# Altium schematic symbol library Componentes_base.SchLib: 431 symbols (part 3 of 12)
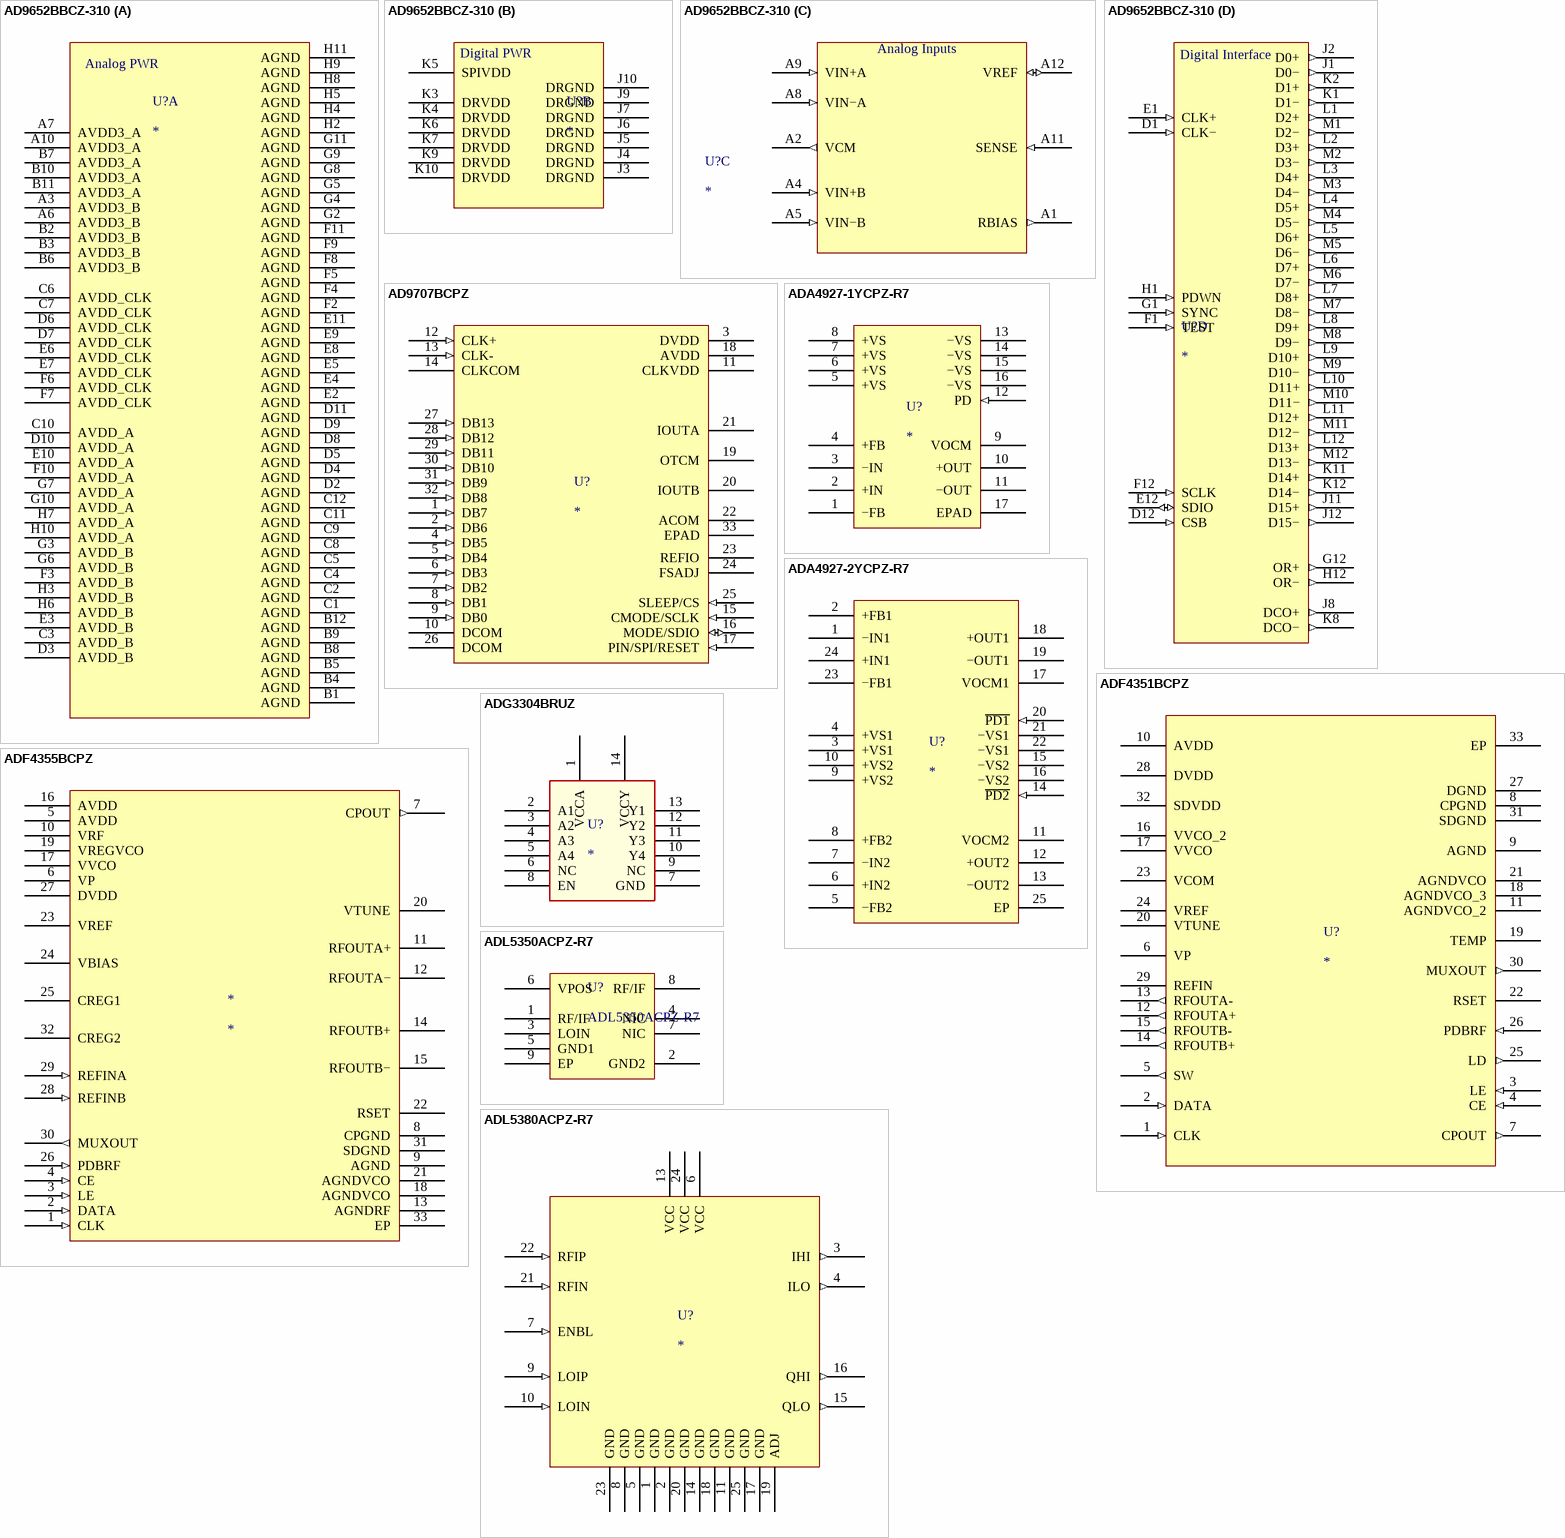
[diagram p16: symbols AD9652BBCZ-310 to ADL5380ACPZ-R7]

## ADL5380ACPZ-R7
designator U?
IC DEMOD QUAD .4/6GHZ 24LFCSP; Manufacturer: Analog Devices; Manufacturer Part Number: ADL5380ACPZ-R7; Supply Current: 245 mA; Interface Type: LO; Development Kit: AD-FMCOMMS1-EBZ; Maximum Frequency: 6 GHz; Maximum Power Dissipation: 1370 mW; Minimum Frequency: 400 MHz; Modulation Type: Quadrature; Operating Supply Voltage: 4.75 V to 5.25 V; Product Status: New at Mouser; Function: Demodulator; LO Frequency: 400MHz ~ 6GHz; P1dB: 11.6dBm; Gain: 6.9dB; Noise Figure: 10.9dB; Current - Supply: 245mA; Voltage - Supply: 4.75 V ~ 5.25 V; Supplier 1: Mouser; Supplier Part Number 1: 584-ADL5380ACPZ-R7; RoHS: RoHS Compliant; Category: Modulator/Demodulator; Stock 1: 851; Pricing 1: 1=9.05, 5=8.47, 10=8.22, 25=7.60, 50=7.20, 100=6.99, 250=6.38, 500=5.96, 1000=5.49, 1500=5.49 (EUR); Package/Case: LFCSP-24; Packaging: Reel; Series: ADL5380; Type: Demodulator; Brand: Analog Devices; Mounting Style: SMD/SMT; Maximum Operating Temperature: + 85 C; Minimum Operating Temperature: - 40 C; Standard Pack Qty: 1500; RoHS - Mouser: Y; Minimum Order Quantity: 1; Reeling: True; ComponentLink1URL: http://www.mouser.com/ds/2/609/ADL5380-243163.pdf; ComponentLink1Description: http://www.mouser.com/ds/2/609/ADL5380-243163.pdf; Supplier 2: Digi-Key; Supplier Part Number 2: ADL5380ACPZ-R7CT-ND; Stock 2: 1290; Pricing 2: 1=10.02, 10=9.092, 25=8.4296, 100=7.7237, 250=7.06164, 500=6.57616 (EUR); RF Frequency: 400MHz ~ 6GHz; Package / Case: 24-VFQFN Exposed Pad, CSP; Supplier Device Package: 24-LFCSP-VQ (4x4); ComponentLink2URL: http://www.analog.com/static/imported-files/data_sheets/ADL5380.pdf; ComponentLink2Description: http://www.analog.com/static/imported-files/data_sheets/ADL5380.pdf
footprint QFN50P400X400X100_HS-25N (QFN, 24-Leads, Body 4,00x4,00mm, Pitch 0,50mm, Thermal Pad 2,50x2,50mm, IPC Medium Density)
pins: 1 GND (power), 2 GND (power), 3 IHI (out), 4 ILO (out), 5 GND (power), 6 VCC (power), 7 ENBL (in), 8 GND (power), 9 LOIP (in), 10 LOIN (in), 11 GND (power), 12 NC hidden, 13 VCC (power), 14 GND (power), 15 QLO (out), 16 QHI (out), 17 GND (power), 18 GND (power), 19 ADJ, 20 GND (power), 21 RFIN (in), 22 RFIP (in), 23 GND (power), 24 VCC (power), 25 GND (power)

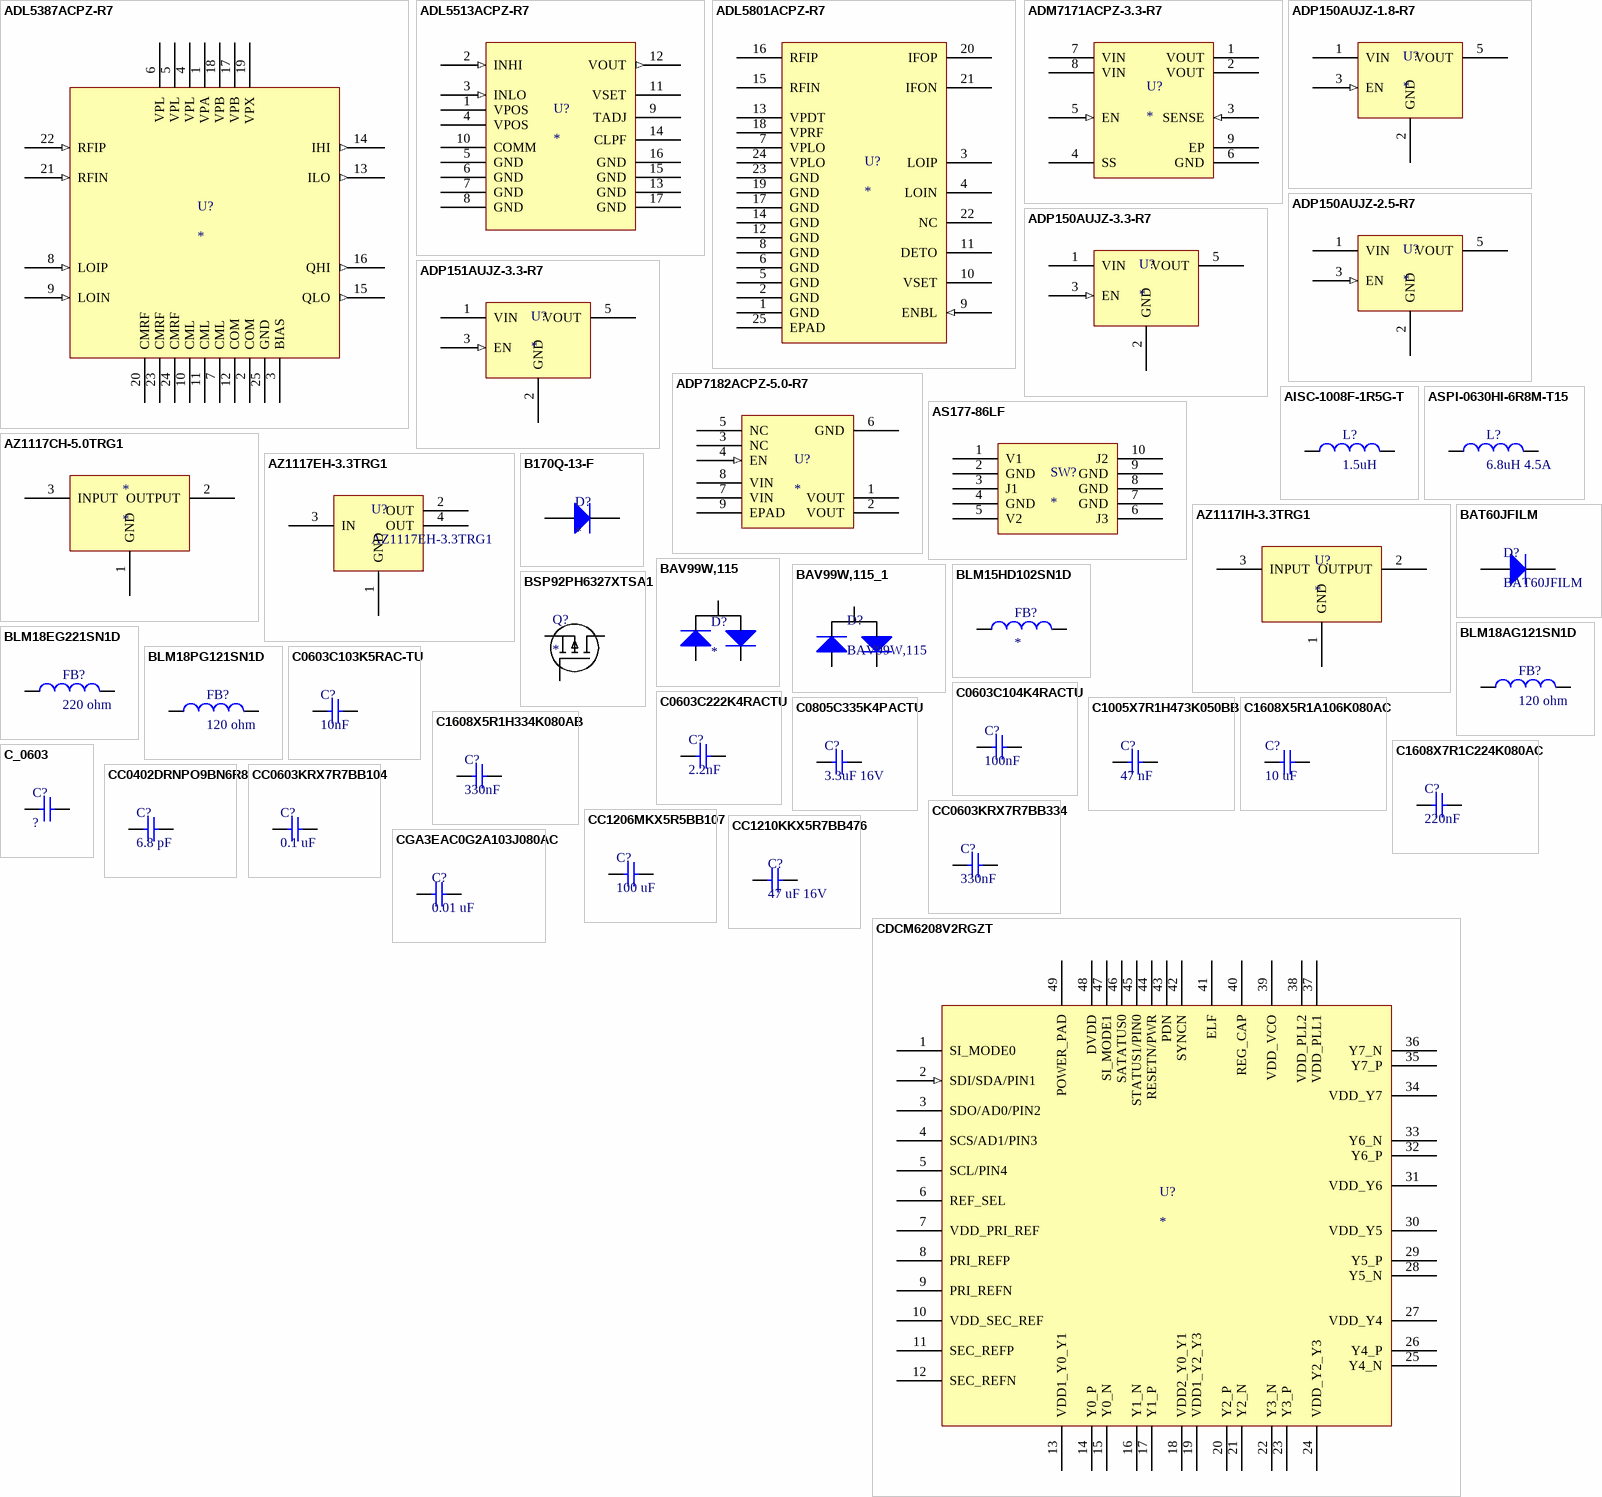
[diagram p3: symbols ADL5387ACPZ-R7 to CGA3EAC0G2A103J080AC]

## ADL5387ACPZ-R7
designator U?
IC QUADRATUR DEMOD 50MHZ 24LFCSP; Manufacturer: Analog Devices Inc; Manufacturer Part Number: ADL5387ACPZ-R7; Function: Demodulator; LO Frequency: 100MHz ~ 4GHz; RF Frequency: 30MHz ~ 2GHz; P1dB: 12.8dBm; Gain: 3.8dB; Noise Figure: 16.5dB; Current - Supply: 180mA; Voltage - Supply: 4.75 V ~ 5.25 V; Supplier 1: Digi-Key; Supplier Part Number 1: ADL5387ACPZ-R7CT-ND; RoHS: RoHS Compliant; Category: RF/IF and RFID; Stock 1: 1547; Pricing 1: 1=10.02, 10=9.092, 25=8.4296, 100=7.7237, 250=7.06164, 500=6.57616 (EUR); Packaging: Cut Tape (CT); Package / Case: 24-VFQFN Exposed Pad, CSP; Supplier Device Package: 24-LFCSP-VQ (4x4); ComponentLink1URL: http://www.analog.com/static/imported-files/data_sheets/ADL5387.pdf; ComponentLink1Description: http://www.analog.com/static/imported-files/data_sheets/ADL5387.pdf
footprint QFN50P400X400X100_HS-25N (QFN, 24-Leads, Body 4,00x4,00mm, Pitch 0,50mm, Thermal Pad 2,50x2,50mm, IPC Medium Density)
pins: 1 VPA (power), 2 COM (power), 3 BIAS, 4 VPL (power), 5 VPL (power), 6 VPL (power), 7 CML (power), 8 LOIP (in), 9 LOIN (in), 10 CML (power), 11 CML (power), 12 COM (power), 13 ILO (out), 14 IHI (out), 15 QLO (out), 16 QHI (out), 17 VPB (power), 18 VPB (power), 19 VPX (power), 20 CMRF, 21 RFIN (in), 22 RFIP (in), 23 CMRF (power), 24 CMRF (power), 25 GND (power)

## ADL5513ACPZ-R7
designator U?
Logarithmic Amplifiers 1MHz-4GHz 80 dB; Manufacturer: Analog Devices; Manufacturer Part Number: ADL5513ACPZ-R7; Bandwidth: 1 MHz to 4 GHz; Supply Current: 31 mA; Input Voltage Range - Max: 5.5 V; Number of Channels: 1 Channel; Development Kit: ADL5513-EVALZ; Operating Supply Voltage: 2.7 V to 5.5 V; Pd - Power Dissipation: 220 mW; Product Status: New at Mouser; Frequency: 1MHz ~ 4GHz; RF Type: WiMax, WLAN; Input Range: -58dBm ~ 6dBm; Accuracy: ±0.5dB; Voltage - Supply: 2.7 V ~ 5.5 V; Current - Supply: 31mA; Supplier 1: Mouser; Supplier Part Number 1: 584-ADL5513ACPZ-R7; RoHS: RoHS Compliant; Category: Logarithmic Amplifiers; Stock 1: 3348; Pricing 1: 1=9.52, 5=8.92, 10=8.66, 25=8.01, 50=7.58, 100=7.36, 250=6.71, 500=6.28, 1000=5.77, 1500=5.77 (EUR); Amplifier Type: Logarithmic; Package/Case: LFCSP-16; Packaging: Reel; Product: Operational Amplifiers; Series: ADL5513; Type: Log Amp Detector; Brand: Analog Devices; Mounting Style: SMD/SMT; Maximum Operating Temperature: + 125 C; Minimum Operating Temperature: - 40 C; Standard Pack Qty: 1500; RoHS - Mouser: Y; Minimum Order Quantity: 1; Reeling: True; ComponentLink1URL: http://www.mouser.com/ds/2/609/ADL5513-249141.pdf; ComponentLink1Description: http://www.mouser.com/ds/2/609/ADL5513-249141.pdf; Supplier 2: Digi-Key; Supplier Part Number 2: ADL5513ACPZ-R7CT-ND; Stock 2: 2799; Pricing 2: 1=10.55, 10=9.574, 25=8.8772, 100=8.1333, 250=7.43612, 500=6.9249 (EUR); Package / Case: 16-VFQFN Exposed Pad, CSP; ComponentLink2URL: http://www.analog.com/static/imported-files/data_sheets/ADL5513.pdf; ComponentLink2Description: http://www.analog.com/static/imported-files/data_sheets/ADL5513.pdf
footprint QFN50P300X300X90_HS-17N (QFN, 16-Leads, Body 3,00x3,00mm, Pitch 0,50mm, Thermal Pad 1,50x1,50mm, IPC Medium Density)
pins: 1 VPOS, 2 INHI (in), 3 INLO (in), 4 VPOS (power), 5 GND (power), 6 GND (power), 7 GND (power), 8 GND (power), 9 TADJ, 10 COMM (power), 11 VSET, 12 VOUT (out), 13 GND (power), 14 CLPF, 15 GND (power), 16 GND (power), 17 GND (power)

## ADL5801ACPZ-R7
designator U?
RF Mixer Wide Band Active Mixer; Manufacturer: Analog Devices; Manufacturer Part Number: ADL5801ACPZ-R7; Frequency Range: 10 MHz to 6 GHz; Conversion Loss - Max: 1.8 dB; Development Kit: ADL5801-EVALZ; NF - Noise Figure: 9.75 dB; Operating Supply Current: 130 mA; Operating Supply Voltage: 5 V; Supplier 1: Mouser; RoHS: RoHS Compliant; Category: RF Mixer; Stock 1: 1229; Pricing 1: 1=9.23, 5=8.64, 10=8.39, 25=7.76, 50=7.34, 100=7.13, 250=6.50, 500=6.08, 1000=5.97, 1500=5.97 (EUR); Package/Case: LFCSP EP; Packaging: Reel; Series: ADL5801; Brand: Analog Devices; Maximum Operating Temperature: + 85 C; Minimum Operating Temperature: - 40 C; Standard Pack Qty: 1500; RoHS - Mouser: Y; Minimum Order Quantity: 1; Reeling: True; ComponentLink1URL: http://www.mouser.com/ds/2/609/ADL5801-243768.pdf; ComponentLink1Description: http://www.mouser.com/ds/2/609/ADL5801-243768.pdf; Supplier Part Number 1: 584-ADL5801ACPZ-R7
footprint QFN50P400X400X100_HS-25L CP-24-3 (QFN, 24-Leads, Body 4,00x4,00mm, Pitch 0,50mm, Thermal Pad 2,50x2,50mm, IPC High Density)
pins: 1 GND (power), 2 GND (power), 3 LOIP, 4 LOIN, 5 GND (power), 6 GND (power), 7 VPLO (power), 8 GND (power), 9 ENBL (in), 10 VSET (power), 11 DETO, 12 GND (power), 13 VPDT (power), 14 GND (power), 15 RFIN, 16 RFIP, 17 GND (power), 18 VPRF (power), 19 GND (power), 20 IFOP, 21 IFON, 22 NC, 23 GND (power), 24 VPLO (power), 25 EPAD (power)

## ADM7171ACPZ-3.3-R7
designator U?
IC REG LDO 3.3V 1A 8-LFCSP; Manufacturer: Analog Devices Inc.; Manufacturer Part Number: ADM7171ACPZ-3.3-R7; Regulator Topology: Positive Fixed; Voltage - Dropout (Typical): 0.084V @ 1A; Number of Regulators: 1; Voltage - Input: Up to 6.5V; Current - Limit (Min): 1.3A; Supplier 1: Digi-Key; RoHS: RoHS Compliant; Category: Integrated Circuits (ICs); Stock 1: 1479; Pricing 1: 1=2.96, 10=2.655, 100=2.1757, 500=1.85208 (EUR); Packaging: Cut Tape (CT); Part Status: Active; Voltage - Output: 3.3V; Current - Output: 1A; Operating Temperature: -40°C ~ 125°C; Mounting Type: Surface Mount; Package / Case: 8-WFDFN Exposed Pad, CSP; Supplier Device Package: 8-LFCSP-WD (3x3); ComponentLink1URL: http://www.analog.com/media/en/technical-documentation/data-sheets/ADM7171.pdf; ComponentLink1Description: http://www.analog.com/media/en/technical-documentation/data-sheets/ADM7171.pdf; Supplier Part Number 1: ADM7171ACPZ-3.3-R7CT-ND; .SymbolChecked: *; .FootprintChecked: *; .Critical: *
footprint SON50P300X80_HS-9N LFCSP_WD Analog (SON, 8-Leads, Body 3,00x3,00mm, Pitch 0,50mm, Thermal Pad 1,60x1,49mm, IPC Medium Density)
pins: 1 VOUT (power), 2 VOUT (power), 3 SENSE (in), 4 SS, 5 EN (in), 6 GND (power), 7 VIN (power), 8 VIN (power), 9 EP (power)

## ADP150AUJZ-1.8-R7
designator U?
Linear Voltage Regulators Ultralow Noise 150mA CMOS; Manufacturer: Analog Devices; Manufacturer Part Number: ADP150AUJZ-1.8-R7; Input Voltage MAX: 5.5 V; Number of Outputs: 1; Output Type: Fixed; Output Voltage: 1.8 V; PSRR / Ripple Rejection - Typ: 70 dB; Input Voltage MIN: 2.2 V; Line Regulation: 0.05 % / V; Load Regulation: 0.002 % / mA; Polarity: Positive; Product Status: New at Mouser; Regulator Topology: Positive Fixed; Voltage - Output: 1.8V; Voltage - Dropout (Typical): 0.105V @ 150mA; Voltage - Input: 2.2 V ~ 5.5 V; Current - Limit (Min): 190mA; Supplier 1: Mouser; Supplier Part Number 1: 584-ADP150AUJZ-1.8R7; RoHS: RoHS Compliant; Category: Linear Voltage Regulators; Stock 1: 4374; Pricing 1: 1=0.848, 10=0.747, 25=0.676, 100=0.590, 250=0.519, 500=0.458, 1000=0.362, 3000=0.338, 6000=0.322 (EUR); Output Current: 150 mA; Package/Case: TSOT-5; Packaging: Reel; Series: ADP150; Brand: Analog Devices; Mounting Style: SMD/SMT; Maximum Operating Temperature: + 125 C; Minimum Operating Temperature: - 40 C; Standard Pack Qty: 3000; RoHS - Mouser: Y; Minimum Order Quantity: 1; Reeling: True; ComponentLink1URL: http://www.mouser.com/ds/2/609/ADP150-279215.pdf; ComponentLink1Description: http://www.mouser.com/ds/2/609/ADP150-279215.pdf; Supplier 2: Digi-Key; Supplier Part Number 2: ADP150AUJZ-1.8-R7CT-ND; Stock 2: 4706; Pricing 2: 1=0.93, 10=0.826, 25=0.746, 100=0.653, 250=0.57268, 500=0.5079, 1000=0.40165 (EUR); Current - Output: 150mA; Number of Regulators: 1; Operating Temperature: -40°C ~ 85°C; Mounting Type: Surface Mount; Package / Case: SOT-23-5 Thin, TSOT-23-5; Supplier Device Package: TSOT-5; ComponentLink2URL: http://www.analog.com/static/imported-files/data_sheets/ADP150.pdf; ComponentLink2Description: http://www.analog.com/static/imported-files/data_sheets/ADP150.pdf
pins: 1 VIN (power), 2 GND (power), 3 EN (in), 5 VOUT (power)

## ADP150AUJZ-2.5-R7
designator U?
Linear Voltage Regulators Ultralow Noise 150mA CMOS; Manufacturer: Analog Devices; Manufacturer Part Number: ADP150AUJZ-2.5-R7; Input Voltage MAX: 5.5 V; Input Voltage MIN: 2.2 V; Product Status: New at Mouser; Regulator Topology: Positive Fixed; Voltage - Output: 2.5V; Voltage - Dropout (Typical): 0.105V @ 150mA; Number of Regulators: 1; Voltage - Input: Up to 5.5V; Current - Limit (Min): 190mA; Supplier 1: Mouser; Supplier Part Number 1: 584-ADP150AUJZ-2.5R7; RoHS: RoHS Compliant; Category: Linear Voltage Regulators; Stock 1: 4062; Pricing 1: 1=0.848, 10=0.747, 25=0.676, 100=0.590, 250=0.519, 500=0.458, 1000=0.362, 3000=0.338, 6000=0.322 (EUR); Output Current: 150 mA; Package/Case: TSOT-5; Packaging: Reel; Series: ADP150; Brand: Analog Devices; Mounting Style: SMD/SMT; Maximum Operating Temperature: + 125 C; Minimum Operating Temperature: - 40 C; Standard Pack Qty: 3000; RoHS - Mouser: Y; Minimum Order Quantity: 1; Reeling: True; ComponentLink1URL: http://www.mouser.com/ds/2/609/ADP150-279215.pdf; ComponentLink1Description: http://www.mouser.com/ds/2/609/ADP150-279215.pdf; Supplier 2: Digi-Key; Supplier Part Number 2: ADP150AUJZ-2.5-R7CT-ND; Stock 2: 5672; Pricing 2: 1=0.93, 10=0.826, 25=0.746, 100=0.653, 250=0.57268, 500=0.5079, 1000=0.40165 (EUR); Current - Output: 150mA; Operating Temperature: -40°C ~ 85°C; Mounting Type: Surface Mount; Package / Case: SOT-23-5 Thin, TSOT-23-5; Supplier Device Package: TSOT-5; ComponentLink2URL: http://www.analog.com/static/imported-files/data_sheets/ADP150.pdf; ComponentLink2Description: http://www.analog.com/static/imported-files/data_sheets/ADP150.pdf
footprint SOT95P280X100-5N (SOT23, 5-Leads, Body 2,90x2,80mm, Pitch 0,95mm, IPC Medium Density)
pins: 1 VIN (power), 2 GND (power), 3 EN (in), 5 VOUT (power)

## ADP150AUJZ-3.3-R7
designator U?
Linear Voltage Regulators Ultralow Noise 150mA CMOS; Manufacturer: Analog Devices; Manufacturer Part Number: ADP150AUJZ-3.3-R7; Input Voltage MAX: 5.5 V; Input Voltage MIN: 2.2 V; Product Status: New at Mouser; Regulator Topology: Positive Fixed; Voltage - Output: 3.3V; Voltage - Dropout (Typical): 0.105V @ 150mA; Number of Regulators: 1; Voltage - Input: Up to 5.5V; Current - Limit (Min): 190mA; Supplier 1: Mouser; Supplier Part Number 1: 584-ADP150AUJZ-3.3R7; RoHS: RoHS Compliant; Category: Linear Voltage Regulators; Stock 1: 7551; Pricing 1: 1=0.848, 10=0.747, 25=0.676, 100=0.590, 250=0.519, 500=0.458, 1000=0.362, 3000=0.338, 6000=0.322 (EUR); Output Current: 150 mA; Package/Case: TSOT-5; Packaging: Reel; Series: ADP150; Brand: Analog Devices; Mounting Style: SMD/SMT; Maximum Operating Temperature: + 125 C; Minimum Operating Temperature: - 40 C; Standard Pack Qty: 3000; RoHS - Mouser: Y; Minimum Order Quantity: 1; Reeling: True; ComponentLink1URL: http://www.mouser.com/ds/2/609/ADP150-279215.pdf; ComponentLink1Description: http://www.mouser.com/ds/2/609/ADP150-279215.pdf; Supplier 2: Digi-Key; Supplier Part Number 2: ADP150AUJZ-3.3-R7CT-ND; Stock 2: 9247; Pricing 2: 1=0.93, 10=0.826, 25=0.746, 100=0.653, 250=0.57268, 500=0.5079, 1000=0.40165 (EUR); Current - Output: 150mA; Operating Temperature: -40°C ~ 85°C; Mounting Type: Surface Mount; Package / Case: SOT-23-5 Thin, TSOT-23-5; Supplier Device Package: TSOT-5; ComponentLink2URL: http://www.analog.com/static/imported-files/data_sheets/ADP150.pdf; ComponentLink2Description: http://www.analog.com/static/imported-files/data_sheets/ADP150.pdf
footprint SOT95P280X100-5N (SOT23, 5-Leads, Body 2,90x2,80mm, Pitch 0,95mm, IPC Medium Density)
pins: 1 VIN (power), 2 GND (power), 3 EN (in), 5 VOUT (power)

## ADP151AUJZ-3.3-R7
designator U?
Linear Voltage Regulators Ultra Low Noise 200mA CMOS; Manufacturer: Analog Devices; Manufacturer Part Number: ADP151AUJZ-3.3-R7; Input Voltage MAX: 5.5 V; Input Voltage MIN: 2.2 V; Product Status: New at Mouser; Regulator Topology: Positive Fixed; Voltage - Output: 3.3V; Voltage - Dropout (Typical): 0.15V @ 200mA; Number of Regulators: 1; Voltage - Input: Up to 5.5V; Current - Limit (Min): 220mA; Supplier 1: Mouser; Supplier Part Number 1: 584-ADP151AUJZ-3.3R7; RoHS: RoHS Compliant; Category: Linear Voltage Regulators; Stock 1: 24694; Pricing 1: 1=0.926, 10=0.820, 25=0.740, 100=0.647, 250=0.568, 500=0.503, 1000=0.397, 3000=0.370, 6000=0.354 (EUR); Output Current: 200 mA; Package/Case: TSOT-5; Packaging: Reel; Series: ADP151; Brand: Analog Devices; Mounting Style: SMD/SMT; Maximum Operating Temperature: + 125 C; Minimum Operating Temperature: - 40 C; Standard Pack Qty: 3000; RoHS - Mouser: Y; Minimum Order Quantity: 1; Reeling: True; ComponentLink1URL: http://www.mouser.com/ds/2/609/ADP151-259455.pdf; ComponentLink1Description: http://www.mouser.com/ds/2/609/ADP151-259455.pdf; Supplier 2: Digi-Key; Supplier Part Number 2: ADP151AUJZ-3.3-R7CT-ND; Stock 2: 11606; Pricing 2: 1=1.03, 10=0.906, 25=0.8188, 100=0.7162, 250=0.62812, 500=0.55704, 1000=0.44052 (EUR); Current - Output: 200mA; Operating Temperature: -40°C ~ 125°C; Mounting Type: Surface Mount; Package / Case: SOT-23-5 Thin, TSOT-23-5; Supplier Device Package: TSOT-5; ComponentLink2URL: http://www.analog.com/static/imported-files/data_sheets/ADP151.pdf; ComponentLink2Description: http://www.analog.com/static/imported-files/data_sheets/ADP151.pdf
footprint SOT95P280X100-5N (SOT23, 5-Leads, Body 2,90x2,80mm, Pitch 0,95mm, IPC Medium Density)
pins: 1 VIN (power), 2 GND (power), 3 EN (in), 5 VOUT (power)

## ADP7182ACPZ-5.0-R7
designator U?
IC REG LDO NEG 5V 0.2A 8LFCSP; Manufacturer: Analog Devices Inc.; Manufacturer Part Number: ADP7182ACPZ-5.0-R7; Regulator Topology: Negative Fixed; Voltage - Output: -5V; Current - Output: 200mA; Voltage - Dropout (Typical): 0.185V @ 200mA; Number of Regulators: 1; Voltage - Input: Down to -28V; Current - Limit (Min): 230mA; Input Voltage MAX: - 28 V; Output Current: - 200 mA; Output Type: Adjustable; Output Voltage: - 5 V; Brand: Analog Devices; PSRR / Ripple Rejection - Typ: 45 dB; Development Kit: ADP7182CP-EVALZ; Input Voltage MIN: - 2.7 V; Line Regulation: 0.01 % / V; Load Regulation: 0.001 % / mA; Polarity: Negative; Supplier 1: Digi-Key; RoHS: RoHS Compliant; Category: Integrated Circuits (ICs); Stock 1: 1667; Pricing 1: 1=3.35, 10=3.011, 100=2.4698, 500=2.10112 (EUR); Packaging: Cut Tape (CT); Operating Temperature: -40°C ~ 125°C; Mounting Type: Surface Mount; Package / Case: 8-WFDFN Exposed Pad, CSP; Supplier Device Package: 8-LFCSP-WD (3x3); ComponentLink1URL: http://www.analog.com/media/en/technical-documentation/data-sheets/ADP7182.pdf; ComponentLink1Description: http://www.analog.com/media/en/technical-documentation/data-sheets/ADP7182.pdf; Supplier 2: Mouser; Stock 2: 1191; Pricing 2: 1=3.37, 10=3.01, 25=2.72, 50=2.54, 100=2.47, 250=2.23, 500=2.00, 1500=1.68 (EUR); Number of Outputs: 1; Package/Case: LFCSP-8; Series: ADP7182; Mounting Style: SMD/SMT; Maximum Operating Temperature: + 125 C; Minimum Operating Temperature: - 40 C; Standard Pack Qty: 1500; RoHS - Mouser: Y; Minimum Order Quantity: 1; Reeling: True; ComponentLink2URL: http://www.mouser.com/ds/2/609/ADP7182-254000.pdf; ComponentLink2Description: http://www.mouser.com/ds/2/609/ADP7182-254000.pdf; Supplier Part Number 1: ADP7182ACPZ-5.0-R7CT-ND; Supplier Part Number 2: 584-ADP7182ACPZ5.0R7
footprint DFN50P300X80_HS-9L CP-8-5 (DFN, 8-Leads, Body 3,00x3,00mm, Pitch 0,50mm, Thermal Pad 2,36x1,49mm, IPC High Density)
pins: 1 VOUT (power), 2 VOUT (power), 3 NC, 4 EN (in), 5 NC, 6 GND (power), 7 VIN (power), 8 VIN (power), 9 EPAD (power)

## AISC-1008F-1R5G-T
designator L?, comment 1.5uH
FIXED IND 1.5UH 630MA 760 MOHM; Manufacturer: Abracon LLC; Manufacturer Part Number: AISC-1008F-1R5G-T; Type: Wirewound; Material - Core: Ferrite; Tolerance: ±2%; Shielding: Unshielded; DC Resistance (DCR): 760 mOhm Max; Q @ Freq: 35 @ 50MHz; Frequency - Self Resonant: 190MHz; Supplier 1: Digi-Key; RoHS: RoHS Compliant; Category: Inductors, Coils, Chokes; Stock 1: 42157; Pricing 1: 1=0.31, 10=0.275, 100=0.189, 500=0.16152, 1000=0.12372 (EUR); Packaging: Cut Tape (CT); Part Status: Active; Current - Saturation: -; Ratings: -; Operating Temperature: -40°C ~ 85°C; Mounting Type: Surface Mount; Package / Case: 1008 (2520 Metric); Supplier Device Package: 1008 (2520 Metric); Size / Dimension: 0.115" L x 0.110" W (2.92mm x 2.79mm); Height - Seated (Max): 0.090" (2.29mm); ComponentLink1URL: https://abracon.com/Magnetics/new/AISC-1008F(L).pdf; ComponentLink1Description: https://abracon.com/Magnetics/new/AISC-1008F(L).pdf; Supplier Part Number 1: AISC-1008F-1R5G-TCT-ND; Supplier 2: Digi-Key; Stock 2: 0; Pricing 2: 0=0 (EUR); ComponentLink2URL: http://productfinder.pulseeng.com/products/datasheets/WC701.pdf; ComponentLink2Description: http://productfinder.pulseeng.com/products/datasheets/WC701.pdf; Supplier Part Number 2: PE-0805CD2N8JTT-ND
footprint INDC1008X07L (Coilcraft 0403HQ, 2-Leads, Body 1,09x0,76mm, IPC High Density)
pins: 1, 2

## AS177-86LF
designator SW?
RF Switch ICs 300KHz-3.0GHz SPDT GaAs Iso 50dB@1.9GHz; Manufacturer: Skyworks Solutions, Inc.; Manufacturer Part Number: AS177-86LF; Product Status: Not Recommended for New Designs; Supplier 1: Mouser; Supplier Part Number 1: 873-AS177-86LF; RoHS: RoHS Compliant; Category: RF Switch ICs; Stock 1: 0; Pricing 1: 2300=1.10, 3000=1.07, 9000=1.06 (EUR); Packaging: Reel; Brand: Skyworks Solutions, Inc.; Standard Pack Qty: 3000; RoHS - Mouser: Y; Minimum Order Quantity: 2300; Reeling: True; ComponentLink1URL: http://www.mouser.com/ds/2/472/200175C-473062.pdf; ComponentLink1Description: http://www.mouser.com/ds/2/472/200175C-473062.pdf
footprint TSSOP50P490X96-10L (TSSOP, 10-Leads, Body 3,00x3,00mm, Pitch 0,50mm, IPC High Density)
pins: 1 V1 (power), 2 GND (power), 3 J1, 4 GND (power), 5 V2 (power), 6 J3, 7 GND (power), 8 GND (power), 9 GND (power), 10 J2

## ASPI-0630HI-6R8M-T15
designator L?, comment 6.8uH 4.5A
INDUCTOR POWER 6.8UH 0630 SMD; Manufacturer: Abracon; Manufacturer Part Number: ASPI-0630HI-6R8M-T15; Tolerance: 20 %; Maximum DC Current: 8 A; Maximum DC Resistance: 54 mOhms; Test Frequency: 100 kHz; Supplier 1: Digi-Key; Stock 1: 2660; Pricing 1: 1=0.89, 10=0.822, 100=0.5946, 500=0.4554 (USD); Product Category: Fixed Inductors; RoHS: True; Inductance: 6.8 uH; Operating Temperature Range: - 55 C to + 125 C; Termination Style: SMD/SMT; Package / Case: 7.2 mm x 6.65 mm; Length: 7.2 mm; Width: 6.65 mm; Height: 3 mm; Series: ASPI-0630HI; Brand: ABRACON; Packaging: Reel; Product: Power Inductors; ComponentLink1URL: https://datasheet.ciiva.com/1080/aspi-0630hi-1080344.pdf; ComponentLink1Description: https://datasheet.ciiva.com/1080/aspi-0630hi-1080344.pdf; ComponentLink2URL: https://datasheet.ciiva.com/1080/aspi-0630hi-1080345.pdf; ComponentLink2Description: https://datasheet.ciiva.com/1080/aspi-0630hi-1080345.pdf; Supplier Part Number 1: 535-13040-1-ND
footprint INDP7266X30N (Precision Wire Wound Inductor, 2-Leads, Body 7,20x6,65mm, IPC Medium Density)
pins: 1, 2

## AZ1117CH-5.0TRG1
designator *
IC REG LDO 5V 0.8A SOT223
footprint SOT223
pins: 1 GND, 2 OUTPUT, 3 INPUT

## AZ1117EH-3.3TRG1
designator U?
IC REG LDO 3.3V 1A SOT223; Manufacturer: Diodes Incorporated; Regulator Topology: Positive Fixed; Voltage - Dropout (Typical): 1.1V @ 1A; Voltage - Input: Up to 13V; Core Processor: ARM® Cortex®-M4; Core Size: 32-Bit; Speed: 72MHz; Connectivity: CAN, I²C, IrDA, LIN, SPI, UART/USART, USB; Peripherals: DMA, I²S, POR, PWM, WDT; Number of I/O: 52; Program Memory Size: 64KB (64K x 8); Program Memory Type: FLASH; RAM Size: 16K x 8; Voltage - Supply (Vcc/Vdd): 2 V ~ 3.6 V; Data Converters: A/D 1x12b, 3x16b, D/A 3x12b; Oscillator Type: Internal; Supplier 1: Digi-Key; Manufacturer Part Number: AZ1117EH-3.3TRG1; RoHS: RoHS Compliant; Category: Integrated Circuits (ICs); Stock 1: 61580; Pricing 1: 1=0.4, 10=0.3, 100=0.1697, 500=0.11242, 1000=0.08619 (EUR); Packaging: Digi-Reel®; Part Status: Active; Voltage - Output: 3.3V; Current - Output: 1A; Current - Limit (Min): -; Operating Temperature: -40°C ~ 125°C; Mounting Type: Surface Mount; Package / Case: TO-261-4, TO-261AA; Supplier Device Package: SOT-223; ComponentLink1URL: https://www.diodes.com/assets/Datasheets/AZ1117E.pdf; ComponentLink1Description: https://www.diodes.com/assets/Datasheets/AZ1117E.pdf; Supplier Part Number 1: AZ1117EH-3.3TRG1DIDKR-ND; Supplier 2: Digi-Key; Stock 2: 6; Pricing 2: 1=4.42, 10=3.971, 100=3.2534, 500=2.76954, 1000=2.33576 (EUR); EEPROM Size: -; ComponentLink2URL: http://www.st.com/content/ccc/resource/technical/document/datasheet/f0/ac/ee/70/19/13/4f/56/DM00046749.pdf/files/DM00046749.pdf/jcr:content/translations/en.DM00046749.pdf; ComponentLink2Description: http://www.st.com/content/ccc/resource/technical/document/datasheet/f0/ac/ee/70/19/13/4f/56/DM00046749.pdf/files/DM00046749.pdf/jcr:content/translations/en.DM00046749.pdf; Supplier Part Number 2: 497-13315-ND
footprint SOT-223 (SOT223, 4-Leads, Body 6,40x7,00mm (avg), Pitch 2,30mm, IPC Medium Density)
pins: 1 GND, 2 OUT, 3 IN, 4 OUT

## AZ1117IH-3.3TRG1
designator U?
IC REG LDO 3.3V 0.8A SOT223; Manufacturer: Diodes Incorporated; Manufacturer Part Number: AZ1117IH-3.3TRG1; Regulator Topology: Positive Fixed; Current - Output: 800mA; Voltage - Dropout (Typical): 1.2V @ 800mA; Number of Regulators: 1; Voltage - Input: Up to 15V; Current - Limit (Min): 1A; Supplier 1: Digi-Key; RoHS: RoHS Compliant; Category: Integrated Circuits (ICs); Stock 1: 1393; Pricing 1: 1=0.35, 10=0.28, 100=0.1905, 500=0.14292, 1000=0.10718 (EUR); Packaging: Digi-Reel®; Part Status: Active; Voltage - Output: 3.3V; Operating Temperature: -40°C ~ 125°C; Mounting Type: Surface Mount; Package / Case: TO-261-4, TO-261AA; Supplier Device Package: SOT-223; ComponentLink1URL: http://www.diodes.com/_files/datasheets/AZ1117I.pdf; ComponentLink1Description: http://www.diodes.com/_files/datasheets/AZ1117I.pdf; Supplier Part Number 1: AZ1117IH-3.3TRG1DIDKR-ND
footprint SOT223
pins: 1 GND, 2 OUTPUT, 3 INPUT

## B170Q-13-F
designator D?
DIODE SCHOTTKY 70V 1A SMA; Manufacturer: Bourns Inc.; Manufacturer Part Number: SRR1280-101M; Type: Wirewound; Material - Core: Ferrite; Inductance: 100µH; Tolerance: ±20%; Current Rating: 2.1A; Current - Saturation: 2A; Shielding: Shielded; DC Resistance (DCR): 150 mOhm Max; Q @ Freq: 18 @ 796kHz; Frequency - Self Resonant: 4.5MHz; Frequency - Test: 100kHz; RoHS: RoHS Compliant; Category: Inductors, Coils, Chokes; Packaging: Cut Tape (CT); Part Status: Active; Ratings: -; Operating Temperature: -40°C ~ 125°C; Mounting Type: Surface Mount; Package / Case: Nonstandard; Size / Dimension: 0.492" L x 0.492" W (12.50mm x 12.50mm); Height - Seated (Max): 0.315" (8.00mm); ComponentLink1URL: http://www.bourns.com/docs/Product-Datasheets/SRR1280.pdf; ComponentLink1Description: http://www.bourns.com/docs/Product-Datasheets/SRR1280.pdf; Supplier 1: Digi-Key; Supplier Part Number 1: B170Q-13-FDICT-ND
footprint SMA
pins: 1 K, 2 A

## BAT60JFILM
designator D?
DIODE SCHOTTKY 10V 3A SOD323; Manufacturer: STMicroelectronics; Current - Average Rectified (Io): 3A (DC); Voltage - Forward (Vf) (Max) @ If: 580mV @ 1A; Speed: Fast Recovery =< 500ns, > 200mA (Io); Current - Reverse Leakage @ Vr: 6µA @ 10V; Supplier 1: Digi-Key; Manufacturer Part Number: BAT60JFILM; RoHS: RoHS Compliant; Category: Discrete Semiconductor Products; Stock 1: 49087; Pricing 1: 1=0.36, 10=0.272, 100=0.1539, 500=0.10188, 1000=0.07812 (EUR); Packaging: Cut Tape (CT); Part Status: Active; Diode Type: Schottky; Capacitance @ Vr, F: -; Mounting Type: Surface Mount; Package / Case: SC-76, SOD-323; Supplier Device Package: SOD-323; Operating Temperature - Junction: 150°C (Max); ComponentLink1URL: http://www.st.com/content/ccc/resource/technical/document/datasheet/3d/d2/27/1d/20/e3/4d/48/CD00001944.pdf/files/CD00001944.pdf/jcr:content/translations/en.CD00001944.pdf; ComponentLink1Description: http://www.st.com/content/ccc/resource/technical/document/datasheet/3d/d2/27/1d/20/e3/4d/48/CD00001944.pdf/files/CD00001944.pdf/jcr:content/translations/en.CD00001944.pdf; Supplier Part Number 1: 497-3707-1-ND
footprint SODFL250X117-2N (SODFL, 2-Leads, Body 1,26x2,50mm, IPC Medium Density)
pins: 1 K, 2 A

## BAV99W,115
designator D?
Diodes - General Purpose, Power, Switching SW DBL 75V 150MA HS; Manufacturer: NXP Semiconductors; Manufacturer Part Number: BAV99W,115; Configuration: Dual Series; Max Surge Current: 4 A; Recovery Time: 4 ns; If - Forward Current: 0.15 A; Ir - Reverse Current: 0.5 uA at 80 V; Peak Reverse Voltage: 100 V; Vf - Forward Voltage: 1.25 V at 0.15 A; Diode Configuration: 1 Pair Series Connection; Diode Type: Standard; Voltage - DC Reverse (Vr) (Max): 100V; Current - Average Rectified (Io) (per Diode): 150mA (DC); Voltage - Forward (Vf) (Max) @ If: 1.25V @ 150mA; Speed: Small Signal =< 200mA (Io), Any Speed; Reverse Recovery Time (trr): 4ns; Current - Reverse Leakage @ Vr: 500nA @ 80V; Supplier 1: Mouser; RoHS: RoHS Compliant; Category: Diodes - General Purpose, Power, Switching; Stock 1: 981113; Pricing 1: 1=0.190, 10=0.163, 100=0.057, 1000=0.039, 3000=0.029, 9000=0.025, 24000=0.023, 45000=0.020, 99000=0.017 (EUR); Operating Temperature Range: + 150 C; Package/Case: SC-70; Packaging: Reel; Product: Switching Diodes; Brand: NXP Semiconductors; Mounting Style: SMD/SMT; Maximum Operating Temperature: + 150 C; Minimum Operating Temperature: - 65 C; Product Category: Diodes & Rectifiers - Arrays; Standard Pack Qty: 3000; RoHS - Mouser: Y; Minimum Order Quantity: 1; Reeling: True; ComponentLink1URL: http://www.mouser.com/ds/2/302/BAV99_SER-353754.pdf; ComponentLink1Description: http://www.mouser.com/ds/2/302/BAV99_SER-353754.pdf; Supplier 2: Digi-Key; Stock 2: 323545; Pricing 2: 1=0.19, 10=0.169, 100=0.0921, 500=0.05658, 1000=0.03859 (EUR); Mounting Type: Surface Mount; Package / Case: SC-70, SOT-323; Supplier Device Package: SOT-323; ComponentLink2URL: http://www.nxp.com/documents/data_sheet/BAV99_SER.pdf; ComponentLink2Description: http://www.nxp.com/documents/data_sheet/BAV99_SER.pdf; Supplier Part Number 1: 771-BAV99W-T/R; Supplier Part Number 2: 568-1625-6-ND
footprint SC70P220X100-3L (SC70 3-Leads, Body 2,00x2,20mm, Pitch 0,95mm, IPC High Density)
pins: 1 A, 2 K, 3 C

## BAV99W,115_1
designator D?, comment BAV99W,115
DIODE ARRAY GP 100V 150MA SOT323; Manufacturer: Nexperia USA Inc.; Diode Configuration: 1 Pair Series Connection; Diode Type: Standard; Current - Average Rectified (Io) (per Diode): 150mA (DC); Voltage - Forward (Vf) (Max) @ If: 1.25V @ 150mA; Speed: Small Signal =< 200mA (Io), Any Speed; Reverse Recovery Time (trr): 4ns; Current - Reverse Leakage @ Vr: 500nA @ 80V; Supplier 1: Digi-Key; Manufacturer Part Number: BAV99W,115; RoHS: RoHS Compliant; Category: Discrete Semiconductor Products; Stock 1: 689591; Pricing 1: 1=0.2, 10=0.176, 100=0.0963, 500=0.05922, 1000=0.04039 (EUR); Packaging: Cut Tape (CT); Part Status: Active; Voltage - DC Reverse (Vr) (Max): 100V; Operating Temperature - Junction: 150°C (Max); Mounting Type: Surface Mount; Package / Case: SC-70, SOT-323; Supplier Device Package: SOT-323-3; ComponentLink1URL: http://assets.nexperia.com/documents/data-sheet/BAV99_SER.pdf; ComponentLink1Description: http://assets.nexperia.com/documents/data-sheet/BAV99_SER.pdf; Supplier Part Number 1: 568-1625-1-ND
footprint SOT65P210X110-3N-SOT323/SC-70 (SOT23, 3-Leads, Body 2,00x2,10mm, Pitch 0,65mm, IPC Medium Density)
pins: 1 A, 2 K, 3 C

## BLM15HD102SN1D
designator FB?
EMI Filter Beads, Chips & Arrays 0402 1Kohms Tape GHz Hi Spd Sig Line; Manufacturer: Murata Electronics; Manufacturer Part Number: BLM15HD102SN1D; Maximum DC Current: 250 mA; Maximum DC Resistance: 1.25 Ohms; Tolerance: 25 %; Case Height: 0.5 mm; Case Length: 1 mm; Test Frequency: 100 MHz; Impedance @ Frequency: 1 kOhm @ 100MHz; Current Rating: 250mA; DC Resistance (DCR): 1.25 Ohm Max; Filter Type: Differential Mode - Single; Supplier 1: Mouser; Supplier Part Number 1: 81-BLM15HD102SN1D; RoHS: RoHS Compliant; Category: EMI Filter Beads, Chips & Arrays; Stock 1: 58205; Pricing 1: 1=0.190, 10=0.104, 100=0.072, 500=0.064, 1000=0.054, 2500=0.046, 10000=0.044, 20000=0.042, 50000=0.041 (EUR); Capacitance: -; Dimensions: 0.5 mm W x 1 mm L x 0.5 mm H; Impedance: 1 kOhms; Operating Temperature Range: - 55 C to + 125 C; Package/Case: 0402 (1005 metric); Packaging: Reel; Product: Ferrite Chip Beads; Series: BLM15H; Termination Style: SMD/SMT; Brand: Murata Electronics; Case Width: 0.5 mm; Product Category: SMD EMI Filters/Chip Ferrite Beads; Standard Pack Qty: 10000; RoHS - Mouser: Y; Minimum Order Quantity: 1; Reeling: True; ComponentLink1URL: http://www.mouser.com/ds/2/281/Murata BL Series-202933.pdf; ComponentLink1Description: http://www.mouser.com/ds/2/281/Murata BL Series-202933.pdf; Supplier 2: Digi-Key; Supplier Part Number 2: 490-4003-1-ND; Stock 2: 211692; Pricing 2: 1=0.2, 10=0.165, 50=0.1058, 100=0.0912, 250=0.073, 500=0.06568, 1000=0.05474, 5000=0.05108 (EUR); Package / Case: 0402 (1005 Metric); Mounting Type: Surface Mount; Height (Max): 0.022" (0.55mm); Size / Dimension: 0.039" L x 0.020" W (1.00mm x 0.50mm); ComponentLink2URL: http://search.murata.co.jp/Ceramy/image/img/PDF/ENG/L0110S0101BLM15H.pdf; ComponentLink2Description: http://search.murata.co.jp/Ceramy/image/img/PDF/ENG/L0110S0101BLM15H.pdf
footprint INDC1005X06L (Chip Inductor, 2-Leads, Body 1,00x0,50mm, IPC High Density)
pins: 1, 2

## BLM18AG121SN1D
designator FB?, comment 120 ohm
EMI Filter Beads, Chips & Arrays 0603 120 OHM; Manufacturer: Murata Electronics; Manufacturer Part Number: BLM18AG121SN1D; Impedance: 120 Ohms; Maximum DC Current: 500 mA; Maximum DC Resistance: 180 mOhms; Tolerance: 25 %; Type: Chip Ferrite Bead Single Type; Test Frequency: 100 MHz; Supplier 1: Mouser; RoHS: RoHS Compliant; Category: EMI Filter Beads, Chips & Arrays; Stock 1: 47552; Pricing 1: 1=0.100, 10=0.059, 100=0.029, 1000=0.024, 4000=0.018, 8000=0.017, 24000=0.016 (EUR); Capacitance: -; Height: 0.8 mm; Length: 1.6 mm; Operating Temperature Range: - 55 C to + 125 C; Package/Case: 0603 (1608 metric); Packaging: Reel; Product: Ferrite Chip Beads; Series: BLM; Termination Style: SMD/SMT; Width: 0.8 mm; Brand: Murata Electronics; Product Category: SMD EMI Filters/Chip Ferrite Beads; Standard Pack Qty: 4000; RoHS - Mouser: Y; Minimum Order Quantity: 1; Reeling: True; ComponentLink1URL: http://www.mouser.com/ds/2/281/ENFA0003-769587.pdf; ComponentLink1Description: http://www.mouser.com/ds/2/281/ENFA0003-769587.pdf; Supplier Part Number 1: 81-BLM11A121S
footprint INDC1608X08L (Chip Inductor, 2-Leads, Body 1,60x0,80mm, IPC High Density)
pins: 1, 2

## BLM18EG221SN1D
designator FB?, comment 220 ohm
FERRITE BEAD 220 OHM 0603 1LN; Manufacturer: Murata Electronics North America; Manufacturer Part Number: BLM18EG221SN1D; Number of Lines: 1; Impedance @ Frequency: 220 Ohm @ 100MHz; Current Rating (Max): 2A; DC Resistance (DCR) (Max): 50 mOhm; Supplier 1: Digi-Key; RoHS: RoHS Compliant; Category: Filters; Stock 1: 50966; Pricing 1: 1=0.21, 10=0.163, 50=0.1168, 100=0.1051, 250=0.08876, 500=0.07944, 1000=0.06775 (EUR); Packaging: Cut Tape (CT); Part Status: Active; Filter Type: -; Ratings: -; Operating Temperature: -55°C ~ 125°C; Package / Case: 0603 (1608 Metric); Mounting Type: Surface Mount; Height (Max): 0.037" (0.95mm); Size / Dimension: 0.063" L x 0.031" W (1.60mm x 0.80mm); ComponentLink1URL: http://search.murata.co.jp/Ceramy/image/img/PDF/ENG/L0110S0101BLM18E.pdf; ComponentLink1Description: http://search.murata.co.jp/Ceramy/image/img/PDF/ENG/L0110S0101BLM18E.pdf; Supplier Part Number 1: 490-3992-1-ND
footprint INDC1608X08L
pins: 1, 2

## BLM18PG121SN1D
designator FB?, comment 120 ohm
FERRITE BEAD 120 OHM 0603 1LN; Manufacturer: Murata Electronics North America; Manufacturer Part Number: BLM18PG121SN1D; Filter Type: Power Line; Number of Lines: 1; Impedance @ Frequency: 120 Ohm @ 100MHz; Current Rating (Max): 2A; DC Resistance (DCR) (Max): 50 mOhm; Supplier 1: Digi-Key; RoHS: RoHS Compliant; Category: Filters; Stock 1: 1305577; Pricing 1: 1=0.09, 10=0.067, 25=0.06, 50=0.0438, 100=0.038, 250=0.02996, 500=0.0253, 1000=0.02132 (EUR); Packaging: Cut Tape (CT); Part Status: Active; Ratings: -; Operating Temperature: -55°C ~ 125°C; Package / Case: 0603 (1608 Metric); Mounting Type: Surface Mount; Height (Max): 0.037" (0.95mm); Size / Dimension: 0.063" L x 0.031" W (1.60mm x 0.80mm); ComponentLink1URL: http://www.murata.com/en-us/products/productdata/8796738650142/ENFA0003.pdf; ComponentLink1Description: http://www.murata.com/en-us/products/productdata/8796738650142/ENFA0003.pdf; Supplier Part Number 1: 490-1037-1-ND
footprint INDC1608X08L (Chip Inductor, 2-Leads, Body 1,60x0,80mm, IPC High Density)
pins: 1, 2

## BSP92PH6327XTSA1
designator Q?
MOSFET P-CH 250V 260MA 4SOT223; Manufacturer: Infineon Technologies; Manufacturer Part Number: BSP92PH6327XTSA1; FET Type: MOSFET P-Channel, Metal Oxide; FET Feature: Logic Level Gate; Current - Continuous Drain (Id) @ 25°C: 260mA (Ta); Rds On (Max) @ Id, Vgs: 12 Ohm @ 260mA, 10V; Vgs(th) (Max) @ Id: 2V @ 130µA; Gate Charge (Qg) @ Vgs: 5.4nC @ 10V; Input Capacitance (Ciss) @ Vds: 104pF @ 25V; Power - Max: 1.8W; Supplier 1: Digi-Key; RoHS: RoHS Compliant; Category: Discrete Semiconductor Products; Stock 1: 1288; Pricing 1: 1=0.43, 10=0.373, 100=0.2791, 500=0.21928 (EUR); Packaging: Cut Tape (CT); Part Status: Active; Drain to Source Voltage (Vdss): 250V; Operating Temperature: -55°C ~ 150°C (TJ); Mounting Type: Surface Mount; Package / Case: TO-261-4, TO-261AA; Supplier Device Package: PG-SOT223-4; ComponentLink1URL: http://www.infineon.com/dgdl/Infineon-BSP92P-DS-v02_07-en.pdf?fileId=db3a30433b47825b013b5fd12d3d575e; ComponentLink1Description: http://www.infineon.com/dgdl/Infineon-BSP92P-DS-v02_07-en.pdf?fileId=db3a30433b47825b013b5fd12d3d575e; Supplier Part Number 1: BSP92PH6327XTSA1CT-ND
footprint SOT223 well
pins: 1, 2, 3

## C0603C103K5RAC-TU
designator C?, comment 10nF
CAP CER 10000PF 50V X7R 0603; Manufacturer: KEMET; Manufacturer Part Number: C0603C103K5RAC-TU; Capacitance Value: 0.01 uF; Voltage: 50 Vdc; Tolerance: 10 %; Product Length: 1.6 mm; Product Height: 0.8 mm; Supplier 1: Digi-Key; Stock 1: 40000; Pricing 1: 1=0.1, 10=0.073, 100=0.0324, 500=0.0231, 1000=0.0182 (USD); Package/Case: 0603; Mounting: Surface Mount; Dielectric: X7R; Operating Temperature: -55 to 125 °C; Construction: Flat; Category: Capacitor Ceramic Multilayer; ComponentLink1URL: https://datasheet.ciiva.com/7823/1732718-7823585.pdf; ComponentLink1Description: https://datasheet.ciiva.com/7823/1732718-7823585.pdf; ComponentLink2URL: https://datasheet.ciiva.com/5904/kem-c1002-x7r-smd-5904645.pdf; ComponentLink2Description: https://datasheet.ciiva.com/5904/kem-c1002-x7r-smd-5904645.pdf; ComponentLink3URL: https://datasheet.ciiva.com/7823/kem-c1002-x7r-smd-7823976.pdf; ComponentLink3Description: https://datasheet.ciiva.com/7823/kem-c1002-x7r-smd-7823976.pdf; ComponentLink4URL: https://datasheet.ciiva.com/7823/kem-c1002-x7r-smd-7823977.pdf; ComponentLink4Description: https://datasheet.ciiva.com/7823/kem-c1002-x7r-smd-7823977.pdf; ComponentLink5URL: https://datasheet.ciiva.com/7823/1918693-7823978.pdf; ComponentLink5Description: https://datasheet.ciiva.com/7823/1918693-7823978.pdf; ComponentLink6URL: https://datasheet.ciiva.com/14585/70095383-14585450.pdf; ComponentLink6Description: https://datasheet.ciiva.com/14585/70095383-14585450.pdf; ComponentLink7URL: https://datasheet.ciiva.com/18101/getdatasheetpartid-58468-18101898.pdf; ComponentLink7Description: https://datasheet.ciiva.com/18101/getdatasheetpartid-58468-18101898.pdf; ComponentLink8URL: https://datasheet.ciiva.com/5416/kem-c1002-x7r-smd-5416028.pdf; ComponentLink8Description: https://datasheet.ciiva.com/5416/kem-c1002-x7r-smd-5416028.pdf; ComponentLink9URL: https://datasheet.ciiva.com/28645/1851736-28645598.pdf; ComponentLink9Description: https://datasheet.ciiva.com/28645/1851736-28645598.pdf; Supplier Part Number 1: 399-1091-1-ND
footprint 0603 Cap (Chip Capacitor, Body 1.6x0.8mm, IPC High Density)
pins: 1, 2

## C0603C104K4RACTU
designator C?, comment 100nF
CAP CER 0.1UF 16V X7R 0603; Manufacturer: KEMET; Manufacturer Part Number: C0603C104K4RACTU; Capacitance: 0.1µF; Tolerance: ±10%; Supplier 1: Digi-Key; RoHS: RoHS Compliant; Category: Capacitors; Stock 1: 4491346; Pricing 1: 1=0.09, 10=0.022, 25=0.016, 50=0.0122, 100=0.01, 250=0.00836, 500=0.0071, 1000=0.00559 (EUR); Packaging: Digi-Reel®; Part Status: Active; Voltage - Rated: 16V; Temperature Coefficient: X7R; Operating Temperature: -55°C ~ 125°C; Features: -; Ratings: -; Applications: General Purpose; Failure Rate: -; Mounting Type: Surface Mount, MLCC; Package / Case: 0603 (1608 Metric); Size / Dimension: 0.063" L x 0.031" W (1.60mm x 0.80mm); Height - Seated (Max): -; Thickness (Max): 0.034" (0.87mm); Lead Spacing: -; Lead Style: -; ComponentLink1URL: http://www.kemet.com/docfinder?Partnumber=C0603C104K4RACTU; ComponentLink1Description: http://www.kemet.com/docfinder?Partnumber=C0603C104K4RACTU; Supplier Part Number 1: 399-1096-6-ND
footprint 0603 Cap (Chip Capacitor, Body 1.6x0.8mm, IPC High Density)
pins: 1, 2

## C0603C222K4RACTU
designator C?, comment 2.2nF
CAP CER 2200PF 16V X7R 0603; Manufacturer: KEMET; Manufacturer Part Number: C0603C222K4RACTU; Tolerance: ±10%; Supplier 1: Digi-Key; RoHS: RoHS Compliant; Category: Capacitors; Stock 1: 35177; Pricing 1: 1=0.09, 10=0.047, 25=0.0344, 50=0.0258, 100=0.021, 250=0.0176, 500=0.01502, 1000=0.0118 (EUR); Packaging: Digi-Reel®; Part Status: Active; Capacitance: 2200pF; Voltage - Rated: 16V; Temperature Coefficient: X7R; Operating Temperature: -55°C ~ 125°C; Features: -; Ratings: -; Applications: General Purpose; Failure Rate: -; Mounting Type: Surface Mount, MLCC; Package / Case: 0603 (1608 Metric); Size / Dimension: 0.063" L x 0.031" W (1.60mm x 0.80mm); Height - Seated (Max): -; Thickness (Max): 0.034" (0.87mm); Lead Spacing: -; Lead Style: -; ComponentLink1URL: http://www.kemet.com/docfinder?Partnumber=C0603C222K4RACTU; ComponentLink1Description: http://www.kemet.com/docfinder?Partnumber=C0603C222K4RACTU; Supplier Part Number 1: 399-7881-6-ND
footprint 0603 Cap (Chip Capacitor, Body 1.6x0.8mm, IPC High Density)
pins: 1, 2

## C0805C335K4PACTU
designator C?, comment 3.3uF 16V
Multilayer Ceramic Capacitors MLCC - SMD/SMT 16volts 3.3uF X5R 10%; Manufacturer: Kemet; Manufacturer Part Number: C0805C335K4PACTU; Capacitance: 3.3; Tolerance: 10; Voltage Rating (DC): 16; Dissipation Factor: 5; Supplier 1: Digikey; Stock 1: 7901; Pricing 1: 1=0.4, 10=0.281, 25=0.2304, 50=0.1966, 100=0.1685, 250=0.1404, 500=0.1263, 1000=0.1067 (USD); Mount: Surface Mount; Case/Package: 0805; Case Code (Metric): 2012; Case Code (Imperial): 0805; Min Operating Temperature: -55; Max Operating Temperature: 85; Packaging: Tape and Reel; Dielectric: X5R; Voltage Rating: 16; Package Quantity: 2500; Lead Pitch: 0.75; Termination: SMD; Voltage: 16; Length: 2; Height: 1.25; Depth: 1.25; Width: 0.049; Thickness: 0.055; Radiation Hardening: No; Lead Free: Lead Free; REACH SVHC: No SVHC; ComponentLink1URL: https://datasheet.ciiva.com/22705/1847039-22705464.pdf; ComponentLink1Description: https://datasheet.ciiva.com/22705/1847039-22705464.pdf; ComponentLink2URL: https://datasheet.ciiva.com/7842/1847039-7842327.pdf; ComponentLink2Description: https://datasheet.ciiva.com/7842/1847039-7842327.pdf; Supplier Part Number 1: 399-8073-1-ND
footprint 0805 CAP (Chip Capacitor, 2-Leads, Body 2,00x1,25mm, IPC Medium Density)
pins: 1, 2

## C1005X7R1H473K050BB
designator C?, comment 47 nF
CAP CER 0.047UF 50V 10% X7R 0402; Manufacturer: TDK Corporation; Manufacturer Part Number: C1005X7R1H473K050BB; Capacitance: 0.047µF; Type: Multilayer Ceramic Chip Capacitor; Brand: TDK; Case Height: 0.5 mm; Case Length: 1 mm; Temperature Coefficient/Code: +/- 15 %; Supplier 1: Digi-Key; Supplier Part Number 1: 445-7336-1-ND; RoHS: RoHS Compliant; Category: Capacitors; Stock 1: 31988; Pricing 1: 1=0.09, 10=0.064, 100=0.0297, 250=0.02424, 500=0.02074, 1000=0.01584, 5000=0.0132 (EUR); Packaging: Cut Tape (CT); Tolerance: ±10%; Voltage - Rated: 50V; Temperature Coefficient: X7R; Mounting Type: Surface Mount, MLCC; Operating Temperature: -55°C ~ 125°C; Applications: General Purpose; Ratings: -; Package / Case: 0402 (1005 Metric); Size / Dimension: 0.039" L x 0.020" W (1.00mm x 0.50mm); Height - Seated (Max): -; Thickness (Max): 0.022" (0.55mm); Lead Spacing: -; Features: -; Lead Style: -; ComponentLink1URL: http://product.tdk.com/en/catalog/datasheets/mlcc_commercial_general_en.pdf; ComponentLink1Description: http://product.tdk.com/en/catalog/datasheets/mlcc_commercial_general_en.pdf; Supplier 2: Mouser; Supplier Part Number 2: 810-C1005X7R1H473K; Stock 2: 55527; Pricing 2: 1=0.268, 10=0.034, 100=0.020, 1000=0.016, 2500=0.013, 10000=0.011, 20000=0.010, 50000=0.009, 100000=0.007 (EUR); Operating Temperature Range: - 55 C to + 125 C; Package/Case: 0402 (1005 metric); Product: General Type MLCCs; Termination Style: SMD/SMT; Voltage Rating DC: 50 V; Case Code - in: 0402; Case Code - mm: 1005; Case Width: 0.5 mm; Dielectric: X7R; Maximum Operating Temperature: + 125 C; Minimum Operating Temperature: - 55 C; Standard Pack Qty: 10000; RoHS - Mouser: Y; Minimum Order Quantity: 1; Reeling: True; ComponentLink2URL: http://www.mouser.com/ds/2/400/C1005X7R1H473K050BB-264374.pdf; ComponentLink2Description: http://www.mouser.com/ds/2/400/C1005X7R1H473K050BB-264374.pdf
footprint CAPC1005X05L (Chip Capacitor, 2-Leads, Body 1,00x0,50mm, IPC High Density)
pins: 1, 2

## C1608X5R1A106K080AC
designator C?, comment 10 uF
Multilayer Ceramic Capacitors MLCC - SMD/SMT 10uF 10% 10Volts; Manufacturer: TDK; Manufacturer Part Number: C1608X5R1A106K080AC; Type: Multilayer Ceramic Chip Capacitor; Voltage Rating DC: 10 V; Case Height: 0.8 mm; Case Length: 1.6 mm; Dielectric: X5R; Temperature Coefficient/Code: +/- 15 %; Voltage - Rated: 10V; Supplier 1: Mouser; Supplier Part Number 1: 810-C1608X5R1A106K; RoHS: RoHS Compliant; Category: Multilayer Ceramic Capacitors MLCC - SMD/SMT; Stock 1: 295613; Pricing 1: 1=0.407, 10=0.221, 100=0.132, 1000=0.119, 4000=0.087, 8000=0.080, 24000=0.078, 48000=0.073, 100000=0.067 (EUR); Capacitance: 10 uF; Operating Temperature Range: - 55 C to + 85 C; Package/Case: 0603 (1608 metric); Packaging: Reel; Product: General Type MLCCs; Termination Style: SMD/SMT; Tolerance: 10 %; Brand: TDK; Case Code - in: 0603; Case Code - mm: 1608; Case Width: 0.8 mm; Maximum Operating Temperature: + 85 C; Minimum Operating Temperature: - 55 C; Standard Pack Qty: 4000; RoHS - Mouser: Y; Minimum Order Quantity: 1; Reeling: True; ComponentLink1URL: http://product.tdk.com/capacitor/mlcc/detailed_information.php?lang=en&ref=jp&part_no=C1608X5R1A106K080AC; ComponentLink1Description: http://product.tdk.com/capacitor/mlcc/detailed_information.php?lang=en&ref=jp&part_no=C1608X5R1A106K080AC; Supplier 2: Digi-Key; Supplier Part Number 2: 445-7486-1-ND; Stock 2: 583145; Pricing 2: 1=0.42, 10=0.37, 100=0.1848, 250=0.14784, 500=0.13462, 1000=0.12142 (EUR); Temperature Coefficient: X5R; Mounting Type: Surface Mount, MLCC; Operating Temperature: -55°C ~ 85°C; Applications: General Purpose; Ratings: -; Package / Case: 0603 (1608 Metric); Size / Dimension: 0.063" L x 0.031" W (1.60mm x 0.80mm); Height - Seated (Max): -; Thickness (Max): 0.035" (0.90mm); Lead Spacing: -; Features: -; Lead Style: -; ComponentLink2URL: http://product.tdk.com/en/catalog/datasheets/mlcc_commercial_general_en.pdf; ComponentLink2Description: http://product.tdk.com/en/catalog/datasheets/mlcc_commercial_general_en.pdf
footprint CAPC1608X10L (Chip Capacitor, 2-Leads, Body 1,60x0,80mm, IPC High Density)
pins: 1, 2

## C1608X5R1H334K080AB
designator C?, comment 330nF
CAP CER 0.33UF 50V X5R 0603; Manufacturer: TDK; Manufacturer Part Number: C1608X5R1H334K080AB; Capacitance: 330; Voltage Rating: 50; Tolerance: 10; Supplier 1: Digikey; Stock 1: 369115; Pricing 1: 1=0.2, 10=0.136, 25=0.0996, 50=0.0816, 100=0.0688, 250=0.0562, 500=0.0471, 1000=0.0417 (USD); Mount: Surface Mount; Case/Package: 0603; Pins: 2; Case Code (Metric): 1608; Case Code (Imperial): 0603; Min Operating Temperature: -55; Max Operating Temperature: 85; Packaging: Tape and Reel; Voltage Rating (DC): 50; Dielectric: X5R; Termination: SMD; Package Quantity: 1; Composition: Ceramic; Length: 1.6; Weight: 7.1E-05; Height: 0.8; Width: 0.031; Thickness: 0.035; Depth: 0.8; Radiation Hardening: No; REACH SVHC: No SVHC; Lead Free: Lead Free; ComponentLink1URL: https://datasheet.ciiva.com/26919/getdatasheetpartid-755505-26919191.pdf; ComponentLink1Description: https://datasheet.ciiva.com/26919/getdatasheetpartid-755505-26919191.pdf; ComponentLink2URL: https://datasheet.ciiva.com/22694/1796654-22694123.pdf; ComponentLink2Description: https://datasheet.ciiva.com/22694/1796654-22694123.pdf; ComponentLink3URL: https://datasheet.ciiva.com/7975/1796654-7975053.pdf; ComponentLink3Description: https://datasheet.ciiva.com/7975/1796654-7975053.pdf; ComponentLink4URL: https://datasheet.ciiva.com/24218/mlcc-commercial-general-en-24218374.pdf; ComponentLink4Description: https://datasheet.ciiva.com/24218/mlcc-commercial-general-en-24218374.pdf; ComponentLink5URL: https://datasheet.ciiva.com/6251/tdkmlcccaprange-6251126.pdf; ComponentLink5Description: https://datasheet.ciiva.com/6251/tdkmlcccaprange-6251126.pdf; Supplier Part Number 1: 445-7462-1-ND
footprint 0603 Cap (Chip Capacitor, Body 1.6x0.8mm, IPC High Density)
pins: 1, 2

## C1608X7R1C224K080AC
designator C?, comment 220nF
CAP CER 0.22UF 16V X7R 0603; Manufacturer: TDK Corporation; Manufacturer Part Number: C1608X7R1C224K080AC; Capacitance: 0.22µF; Tolerance: ±10%; Supplier 1: Digi-Key; RoHS: RoHS Compliant; Category: Capacitors; Stock 1: 523797; Pricing 1: 1=0.09, 10=0.056, 25=0.0408, 50=0.0304, 100=0.0249, 250=0.0208, 500=0.01776, 1000=0.01396 (EUR); Packaging: Digi-Reel®; Part Status: Active; Voltage - Rated: 16V; Temperature Coefficient: X7R; Operating Temperature: -55°C ~ 125°C; Features: Low ESL; Ratings: -; Applications: General Purpose; Failure Rate: -; Mounting Type: Surface Mount, MLCC; Package / Case: 0603 (1608 Metric); Size / Dimension: 0.063" L x 0.031" W (1.60mm x 0.80mm); Height - Seated (Max): -; Thickness (Max): 0.037" (0.95mm); Lead Spacing: -; Lead Style: -; ComponentLink1URL: https://product.tdk.com/info/en/catalog/datasheets/mlcc_commercial_general_en.pdf; ComponentLink1Description: https://product.tdk.com/info/en/catalog/datasheets/mlcc_commercial_general_en.pdf; Supplier Part Number 1: 445-1318-6-ND
footprint 0603 Cap (Chip Capacitor, Body 1.6x0.8mm, IPC High Density)
pins: 1, 2

## C_0603
designator C?, comment ?
CAP CER 16V X7R 0603; Tolerance: 10; Voltage Rating: 16; Material: Ceramic; Mount: Surface Mount; Case/Package: 0603; Case Code (Metric): 1608; Case Code (Imperial): 0603; Capacitance: *; Dielectric: X7R; Voltage Rating (DC): 16; Termination: SMD; Composition: Ceramic; Voltage: 16; Length: 1.6; Height: 0.8; Width: 0.8; Thickness: 0.035; Depth: 0.8
footprint CAPC1608X10L- 0603
footprint 0603 Cap (Chip Capacitor, Body 1.6x0.8mm, IPC High Density)
pins: 1, 2